# Altium schematic symbol library TLE9012DQU.SchLib: 1 symbol
Pins are listed as number, name and electrical type; pins without a type are passive.

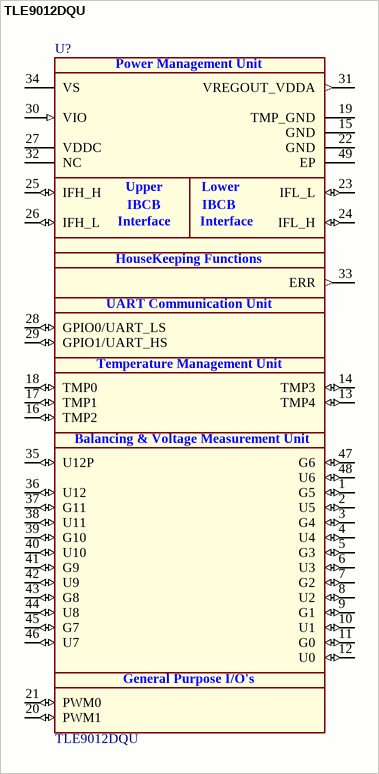
[diagram p0: symbol TLE9012DQU]

## TLE9012DQU
designator U?
Li-Ion Battery Monitoring and Balancing IC; Manufacturer: Infineon Technologies; PackageReference: PG-TQFP-48; Manufacturer Order Number: TLE9012DQU
pins: 1 G5 (io) "Cell balance control channel 5", 2 U5 (io) "Cell voltage measurement channel 5 negative terminal", 3 G4 (io) "Cell balance control channel 4", 4 U4 (io) "Cell voltage measurement channel 4 negative terminal", 5 G3 (io) "Cell balance control channel 3", 6 U3 (io) "Cell voltage measurement channel 3 negative terminal", 7 G2 (io) "Cell balance control channel 2", 8 U2 (io) "Cell voltage measurement channel 2 negative terminal", 9 G1 (io) "Cell balance control channel 1", 10 U1 (io) "Cell voltage measurement channel 1 negative terminal", 11 G0 (io) "Cell balance control channel 0", 12 U0 (io) "Cell voltage measurement channel 0 negative terminal", 13 TMP4 (io) "Temperature sensor 4", 14 TMP3 (io) "Temperature sensor 3", 15 GND (power) "Local GND of CSC device", 16 TMP2 (io) "Temperature sensor 2", 17 TMP1 (io) "Temperature sensor 1", 18 TMP0 (io) "Temperature sensor 0", 19 TMP_GND (power) "Temperature sensor reference", 20 PWM1 (io) "PWM output channel 1", 21 PWM0 (io) "PWM output channel 0", 22 GND (power) "Local GND of CSC device", 23 IFL_L (io) "Lower Inter Block Communication Bus (IBCB) negative logic pin", 24 IFL_H (io) "Lower Inter Block Communication Bus (IBCB) positive logic pin", 25 IFH_H (io) "Upper Inter Block Communication Bus (IBCB) positive logic pin", 26 IFH_L (io) "Upper Inter Block Communication Bus (IBCB) negative logic pin", 27 VDDC (power) "Buffer capacitor pin for internal Inter Block Communication Bus (IBCB) supply", 28 GPIO0/UART_LS (io) "General purpose input/output channel 0", 29 GPIO1/UART_HS (io) "General purpose input/output channel 1", 30 VIO (in) "Input pin for digital GPIO reference", 31 VREGOUT_VDDA (out) "Output pin for the internal 3.3 V regulator", 32 NC "Not connected", 33 ERR (out) "Faultoutput to microcontroller in no-transceiver setup", 34 VS (power) "Main supply pin", 35 U12P (io) "Positive supply pin", 36 U12 (io) "Cell voltage measurement channel 11 positive terminal", 37 G11 (io) "Cell balance control channel 11", 38 U11 (io) "Cell voltage measurement channel 11 negative terminal", 39 G10 (io) "Cell balance control channel 10", 40 U10 (io) "Cell voltage measurement channel 10 negative terminal", 41 G9 (io) "Cell balance control channel 9", 42 U9 (io) "Cell voltage measurement channel 9 negative terminal", 43 G8 (io) "Cell balance control channel 8", 44 U8 (io) "Cell voltage measurement channel 8 negative terminal", 45 G7 (io) "Cell balance control channel 7", 46 U7 (io) "Cell voltage measurement channel 7 negative terminal", 47 G6 (io) "Cell balance control channel 6", 48 U6 (io) "Cell voltage measurement channel 6 negative terminal", 49 EP (power) "Expose Pad"
text: Power Management Unit; Upper; Lower; IBCB; Interface; HouseKeeping Functions; UART Communication Unit; Temperature Management Unit; Balancing & Voltage Measurement Unit; General Purpose I/O's